# Altium footprint library SD Card.PcbLib: 1 footprints
Each footprint in its own frame and in the unit in brackets; x right, y up, seen from the top. Pads: shape width x height; smd on the part's side, far side on the other; paste and mask are expansions set on the pad; w line width, h text height; cw(c..) or ccw(c..) is an arc to the next point about the centre after c.
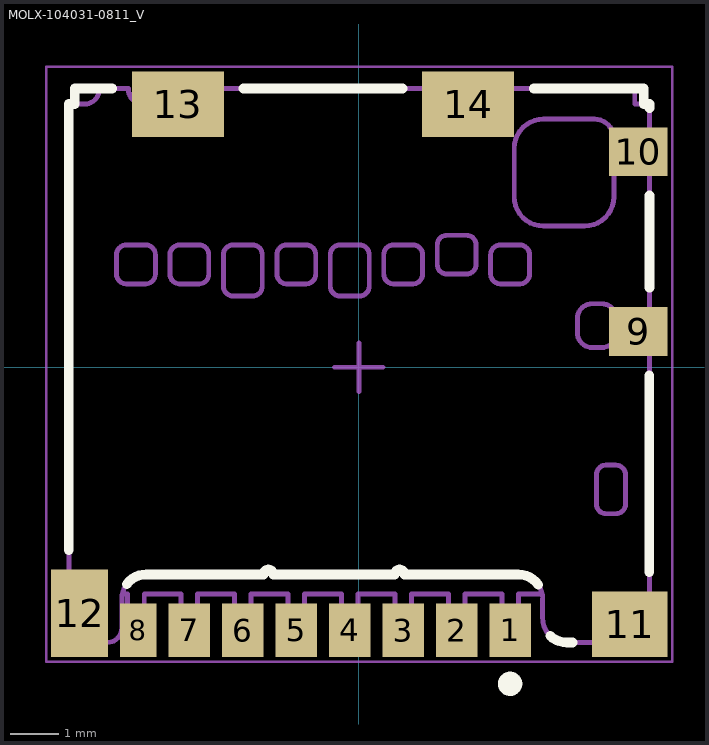
[diagram p0: the footprint, top view; thin cyan lines are the x and y axes]

## MOLX-104031-0811_V [mm] "Micro SD, 8-Leads, Body 11.95x11.4mm, Pitch 1.1mm"
height 1.57
pads (14):
  rect 0.85x1.1 smd: 1(3.113,-5.412) 2(2.013,-5.412) 3(0.913,-5.412) 4(-0.188,-5.412) 5(-1.288,-5.412) 6(-2.387,-5.412) 7(-3.487,-5.412)
  rect 0.75x1.1 smd: 8(-4.537,-5.412)
  rect 1.2x1 smd: 9(5.748,0.738) 10(5.748,4.438)
  rect 1.55x1.35 smd: 11(5.573,-5.287)
  rect 1.17x1.8 smd: 12(-5.747,-5.062)
  rect 1.9x1.35 smd: 13(-3.722,5.413) 14(2.248,5.413)
Top Overlay:
  circle w0.25: c3.113,-6.512 r0.125
  lines w0.2: -5.968,-3.762 -5.968,5.418 -5.848,5.418 -5.848,5.738 -5.343,5.738 -5.072,5.738 ; -4.777,-4.462 cw(c-4.378,-4.762) -4.378,-4.262 -1.962,-4.262 cw(c-1.862,-4.262) -1.862,-4.162 cw(c-1.862,-4.262) -1.762,-4.262 0.738,-4.262 cw(c0.838,-4.262) 0.838,-4.162 cw(c0.838,-4.262) 0.938,-4.262 3.283,-4.262 cw(c3.283,-4.762) 3.692,-4.476 ; -2.372,5.738 0.898,5.738 ; 3.598,5.738 5.678,5.738 5.863,5.738 5.863,5.418 5.983,5.418 5.983,5.338 ; 3.938,-5.525 ccw(c4.283,-5.162) 4.283,-5.662 4.397,-5.662 ; 5.977,-4.212 5.977,-0.162 ; 5.983,1.638 5.983,3.538
Mechanical 13:
  drawing of 227 lines, arcs and shapes, not listed
Mechanical 15:
  lines w0.05: -6.432,-6.062 6.448,-6.062 6.448,6.188 -6.432,6.188 -6.432,-6.062
  lines w0.1: -0.5,0 0.5,0 ; 0,-0.5 0,0.5
3D body "1040310811.stp": height 1.45, standoff 0, extent -5.967,-5.662 5.983,5.738